# Altium schematic symbol library SCH - MCU - NUVOTON - NUVOTON NUC230SC2AE.SchLib: 1 symbol
Pins are listed as number, name and electrical type; pins without a type are passive.

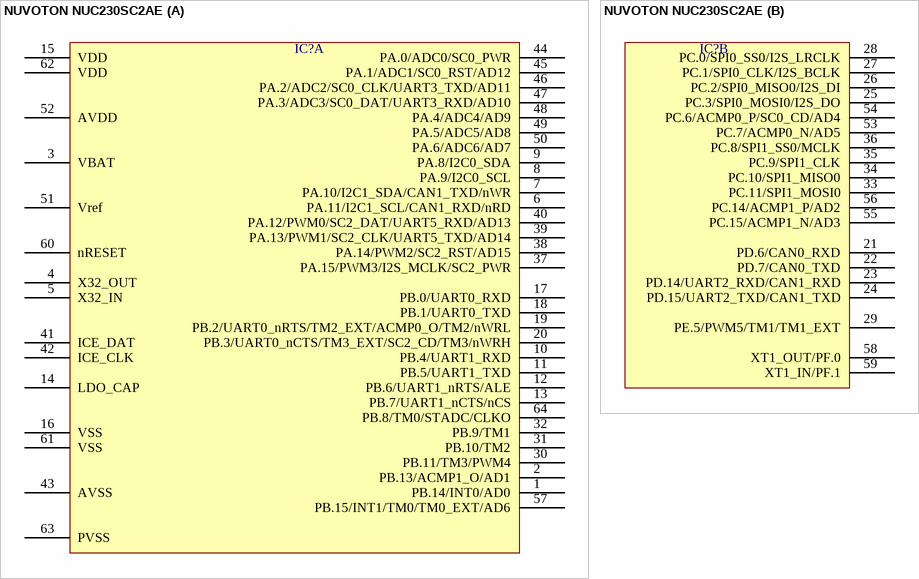
[diagram p0: symbol NUVOTON NUC230SC2AE]

## NUVOTON NUC230SC2AE
designator IC?  (value not drawn)
part A pins: 1 PB.14/INT0/AD0, 2 PB.13/ACMP1_O/AD1, 3 VBAT, 4 X32_OUT, 5 X32_IN, 6 PA.11/I2C1_SCL/CAN1_RXD/nRD, 7 PA.10/I2C1_SDA/CAN1_TXD/nWR, 8 PA.9/I2C0_SCL, 9 PA.8/I2C0_SDA, 10 PB.4/UART1_RXD, 11 PB.5/UART1_TXD, 12 PB.6/UART1_nRTS/ALE, 13 PB.7/UART1_nCTS/nCS, 14 LDO_CAP, 15 VDD, 16 VSS, 17 PB.0/UART0_RXD, 18 PB.1/UART0_TXD, 19 PB.2/UART0_nRTS/TM2_EXT/ACMP0_O/TM2/nWRL, 20 PB.3/UART0_nCTS/TM3_EXT/SC2_CD/TM3/nWRH, 30 PB.11/TM3/PWM4, 31 PB.10/TM2, 32 PB.9/TM1, 37 PA.15/PWM3/I2S_MCLK/SC2_PWR, 38 PA.14/PWM2/SC2_RST/AD15, 39 PA.13/PWM1/SC2_CLK/UART5_TXD/AD14, 40 PA.12/PWM0/SC2_DAT/UART5_RXD/AD13, 41 ICE_DAT, 42 ICE_CLK, 43 AVSS, 44 PA.0/ADC0/SC0_PWR, 45 PA.1/ADC1/SC0_RST/AD12, 46 PA.2/ADC2/SC0_CLK/UART3_TXD/AD11, 47 PA.3/ADC3/SC0_DAT/UART3_RXD/AD10, 48 PA.4/ADC4/AD9, 49 PA.5/ADC5/AD8, 50 PA.6/ADC6/AD7, 51 Vref, 52 AVDD, 57 PB.15/INT1/TM0/TM0_EXT/AD6, 60 nRESET, 61 VSS, 62 VDD, 63 PVSS, 64 PB.8/TM0/STADC/CLKO
part B pins: 21 PD.6/CAN0_RXD, 22 PD.7/CAN0_TXD, 23 PD.14/UART2_RXD/CAN1_RXD, 24 PD.15/UART2_TXD/CAN1_TXD, 25 PC.3/SPI0_MOSI0/I2S_DO, 26 PC.2/SPI0_MISO0/I2S_DI, 27 PC.1/SPI0_CLK/I2S_BCLK, 28 PC.0/SPI0_SS0/I2S_LRCLK, 29 PE.5/PWM5/TM1/TM1_EXT, 33 PC.11/SPI1_MOSI0, 34 PC.10/SPI1_MISO0, 35 PC.9/SPI1_CLK, 36 PC.8/SPI1_SS0/MCLK, 53 PC.7/ACMP0_N/AD5, 54 PC.6/ACMP0_P/SC0_CD/AD4, 55 PC.15/ACMP1_N/AD3, 56 PC.14/ACMP1_P/AD2, 58 XT1_OUT/PF.0, 59 XT1_IN/PF.1